# Altium schematic symbol library Inductor.SchLib: 9 symbols
Pins are listed as number, name and electrical type; pins without a type are passive.

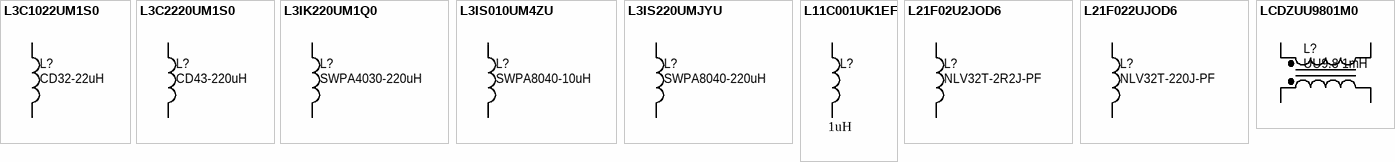
[diagram p0: symbols L3C1022UM1S0 to LCDZUU9801M0]

## L3C1022UM1S0
designator L?, comment CD32-22uH
Inductor CD32-22uH 22uH 0.5A 20%; TemperatureRange: -25 to 80°C; VenderID: CD32-22uH-M; MountType: SMT; Manufacturer: *; PackageReference: CD32; Published: 1-Jun-2017; Publisher: GreenBox
footprint L-SMD-CD32 (CD32, Body 3.0 x 3.5 mm (minWxR typ))
pins: 1, 2

## L3C2220UM1S0
designator L?, comment CD43-220uH
Inductor CD43-220uH 220uH 0.5A 20%; TemperatureRange: -25 to 80°C; VenderID: CD43-220uH-M; MountType: SMT; Manufacturer: *; PackageReference: CD43; Published: 1-Jun-2017; Publisher: GreenBox
footprint L-SMD-CD43 (CD43, Body 4.0 x 4.5 mm (minWxR typ))
pins: 1, 2

## L3IK220UM1Q0
designator L?, comment SWPA4030-220uH
Inductor SWPA4030 220uH 0.4A 20%; TemperatureRange: -25 to 80°C; VenderID: SWPA4030S221MT; MountType: SMT; Manufacturer: *; PackageReference: L-4030; Published: 1-Jun-2017; Publisher: GreenBox
footprint L-4030 (CD43, Body 4.0 x 4.5 mm (minWxR typ))
pins: 1, 2

## L3IS010UM4ZU
designator L?, comment SWPA8040-10uH
Inductor SWPA8040 10uH 3.6A 20%; Manufacturer: SUNLORD; TemperatureRange: -25 to 80°C; VenderID: SWPA8040S100MT; MountType: SMT; PackageReference: L-8040; Published: 1-Jun-2017; Publisher: GreenBox
footprint L-8040 (8040, Body 8.0 x 8.0 mm (minWxR typ))
pins: 1, 2

## L3IS220UMJYU
designator L?, comment SWPA8040-220uH
Inductor SWPA8040 220uH 0.85A 20%; Manufacturer: SUNLORD; TemperatureRange: -25 to 80°C; VenderID: SWPA8040S221MT; MountType: SMT; PackageReference: L-8040; Published: 1-Jun-2017; Publisher: GreenBox
footprint L-8040 (8040, Body 8.0 x 8.0 mm (minWxR typ))
pins: 1, 2

## L11C001UK1EF
designator L?, comment value 1uH  (hidden comment: Inductor)
Inductor 1uH 10% 25MA 0603; Manufacturer: FENGHUA; TemperatureRange: -40℃~105℃; VenderID: CMI160808U1R0KT; MountType: SMT; PackageReference: 0603; Published: 1-Jun-2017; Publisher: GreenBox
footprint 0603-L (0603, Body 1.6 x 0.8 mm (LxW typ))
pins: 1, 2

## L21F02U2JOD6
designator L?, comment NLV32T-2R2J-PF
Inductor NLV32T-2R2J-PF 2.2uH 0.32A 5%; Manufacturer: TDK; TemperatureRange: -40℃~105℃; MountType: SMT; PackageReference: 1210; Published: 1-Jun-2017; Publisher: GreenBox; VenderID: NLV32T-2R2J-PF
footprint 1210
pins: 1, 2

## L21F022UJOD6
designator L?, comment NLV32T-220J-PF
Inductor NLV32T-220J-PF 22uH 0.32A 5%; Manufacturer: TDK; TemperatureRange: -40℃~105℃; MountType: SMT; PackageReference: 1210; Published: 1-Jun-2017; Publisher: GreenBox; VenderID: NLV32T-220J-PF
footprint 1210
pins: 1, 2

## LCDZUU9801M0
designator L?, comment UU9.8 1mH
Common Mode Inductor UU9.8 1mH 1A; TemperatureRange: -25 to 80°C; MountType: DIP; Manufacturer: *; PackageReference: UU9_8; Published: 1-Jun-2017; Publisher: GreenBox; VenderID: UU9.8 1mH
footprint UU9_8 (7*8)
pins: 1 Pri+, 2 Pri-, 3 Sec+, 4 Sec-